# Altium footprint library MOLEX_874270402.PcbLib: 1 footprints
Each footprint in its own frame and in the unit in brackets; x right, y up, seen from the top. Pads: shape width x height; smd on the part's side, far side on the other; paste and mask are expansions set on the pad; w line width, h text height; cw(c..) or ccw(c..) is an arc to the next point about the centre after c.
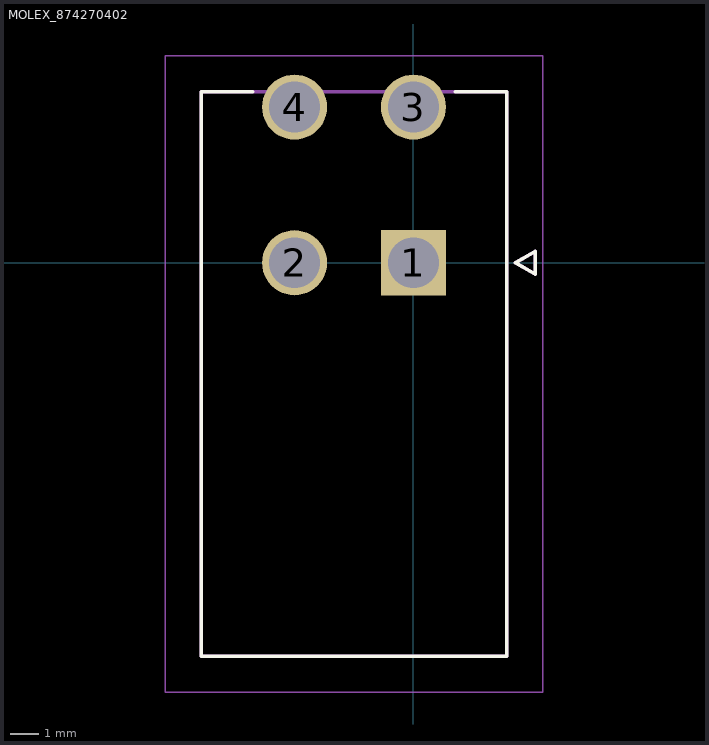
[diagram p0: the footprint, top view; thin cyan lines are the x and y axes]

## MOLEX_874270402 [mm]
pads (4):
  rect 2.3x2.3 hole 1.8 mask+0.076: 1(0,0)
  round 2.3 hole 1.8 mask+0.076: 2(-4.2,0) 3(0,5.5) 4(-4.2,5.5)
Top Overlay:
  lines w0.127: -5.676,6.04 -7.5,6.04 -7.5,-13.9 3.3,-13.9 3.3,6.04 1.476,6.04 ; 3.597,0 4.297,-0.4 4.297,0.4 3.597,0
Bottom Solder:
  circle w1.226: c-4.2,5.5 r0.613
  circle w1.226: c0,5.5 r0.613
  circle w1.226: c-4.2,0 r0.613
  region: 1.226,-1.226 -1.226,-1.226 -1.226,1.226 1.226,1.226
Mechanical 13:
  lines w0.127: -7.5,-13.9 3.3,-13.9 3.3,6.04 -7.5,6.04 -7.5,-13.9 ; 3.597,0 4.297,-0.4 4.297,0.4 3.597,0
  text "PTH D1.80 +/- 0.05" at -7.5,7.799 h0.5
Mechanical 15:
  lines w0.05: -8.77,-15.17 4.57,-15.17 4.57,7.31 -8.77,7.31 -8.77,-15.17
3D body "step_temp.STEP": height 11.4, standoff -3.3, extent -7.62,-13.778 3.18,6.158